# EAGLE library part LINEAR_AD533 (library AD533)
Obsolete AD533 analog multiplier, 10 pin can
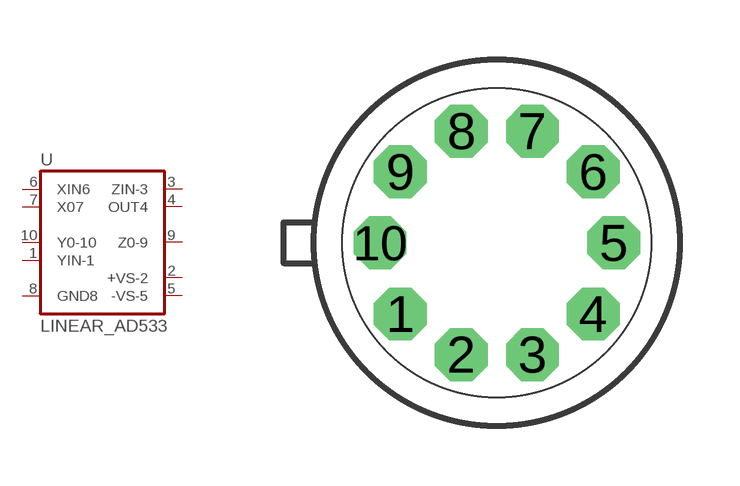
[diagram p0: symbol with the pads of LINEAR_H10C; footprint LINEAR_H10C]

Designator prefix -

## LINEAR_AD533  [LINEAR_H10C]
1  YIN-1  in
2  +VS-2  pwr
3  ZIN-3  in
4  OUT4  out
5  -VS-5  pwr
6  XIN6  in
7  X07  in
8  GND8  pwr
9  Z0-9  in
10  Y0-10  in

## Footprint LINEAR_H10C (pad centres in mm)
Metal Can Package National Semiconductor NS H10C Motorola 603-04 / 603C-01
drill 0.813 octagon: 1 -2.413,-1.778; 2 -0.889,-2.794; 3 0.889,-2.794; 4 2.413,-1.778; 5 2.921,0; 6 2.413,1.778; 7 0.889,2.794; 8 -0.889,2.794; 9 -2.413,1.778; 10 -2.921,0